# Altium footprint library RLC.PcbLib: 144 footprints (part 4 of 9)
Each footprint in its own frame and in the unit in brackets; x right, y up, seen from the top. Pads: shape width x height; smd on the part's side, far side on the other; paste and mask are expansions set on the pad; w line width, h text height; cw(c..) or ccw(c..) is an arc to the next point about the centre after c.
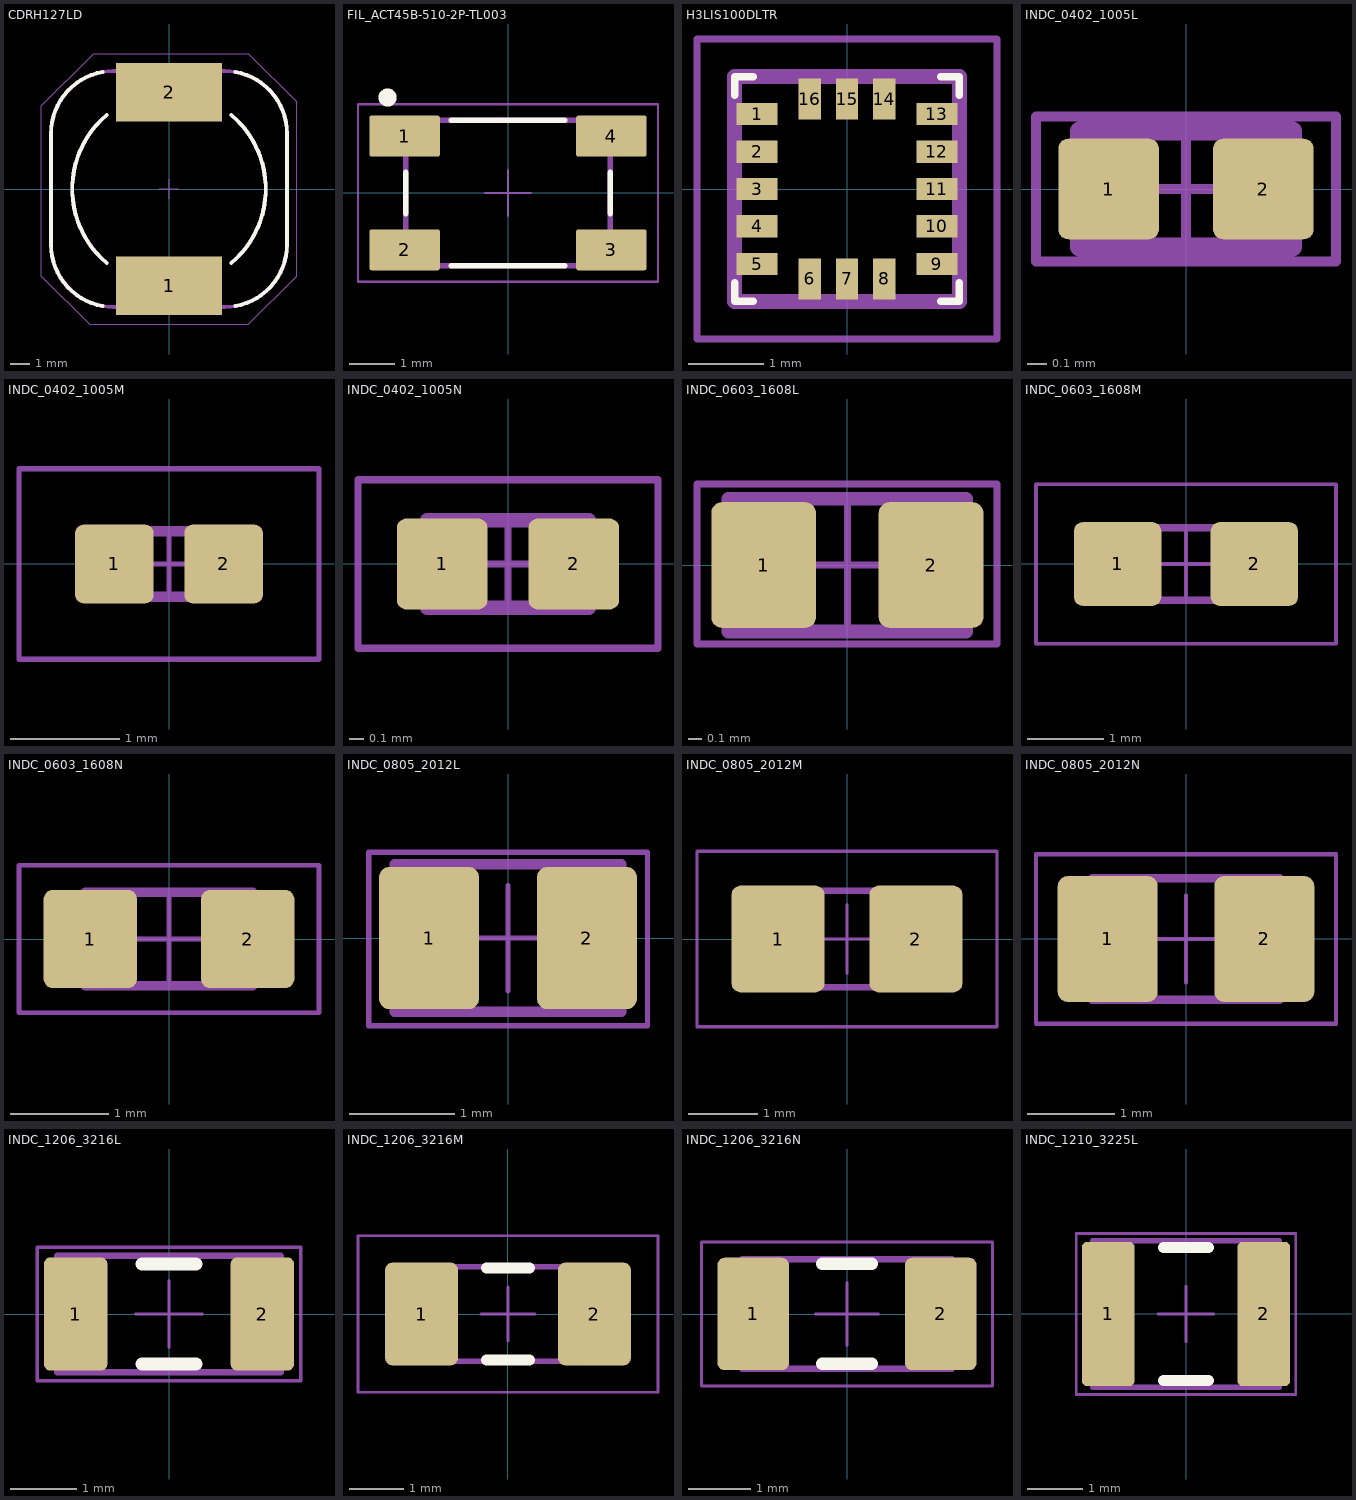
[diagram p3: the footprints below, top view; thin cyan lines are the x and y axes]

## CDRH127LD [mm] "SMD 12.3*12.3*8"
pads (2):
  rect 5.5x3 smd: 1(0,-5) 2(0,5)
Top Overlay:
  lines w0.2: -3.421,-6.051 cw(c-2.858,-2.858) -6.1,-2.858 -6.1,0 -6.1,2.858 cw(c-2.858,2.858) -3.421,6.051 ; -3.214,-3.83 cw(c0,0) -3.214,3.83 ; 3.214,-3.83 ccw(c0,0) 3.214,3.83 ; 3.421,-6.051 ccw(c2.858,-2.858) 6.1,-2.858 6.1,0 6.1,2.858 ccw(c2.858,2.858) 3.421,6.051
Top Designator:
  text ".Designator" at -2.999,7.2 h0.6
Top Assembly:
  lines w0.2: -3.214,-3.83 cw(c0,0) -3.214,3.83 ; 3.214,-3.83 ccw(c0,0) 3.214,3.83 ; -6.1,-2.858 ccw(c-2.858,-2.858) -2.858,-6.1 2.873,-6.1 ccw(c2.873,-2.873) 6.1,-2.873 6.1,2.858 ccw(c2.858,2.858) 2.858,6.1 -2.858,6.1 ccw(c-2.858,2.858) -6.1,2.858 -6.1,-2.858
Top Courtyard:
  lines w0.05: -0.5,0 0.5,0 ; 0,-0.5 0,0.5 ; -6.6,-4.5 -4.1,-7 4.1,-7 6.6,-4.5 6.6,4.5 4.1,7 -3.9,7 -6.6,4.3 -6.6,-4.5
3D body "CDRH127_LDNP-330MC.STEP": height 8, standoff 0, extent -6,-6.1 6,5.9

## FIL_ACT45B-510-2P-TL003 [mm]
height 3
pads (4):
  rrect10% 1.55x0.9 smd: 1(-2.275,1.25) 2(-2.275,-1.25) 3(2.275,-1.25) 4(2.275,1.25)
Top Overlay:
  circle w0.2: c-2.65,2.1 r0.1
  lines w0.127: -2.25,-0.45 -2.25,0.45 ; -1.25,-1.6 1.25,-1.6 ; -1.25,1.6 1.25,1.6 ; 2.25,-0.45 2.25,0.45
Top Designator:
  text ".Designator" at -2.099,2.25 h0.6
Top Assembly:
  lines w0.127: -2.25,-1.6 2.25,-1.6 2.25,1.6 -1.6,1.6 -2.25,0.95 -2.25,-1.6
Top Courtyard:
  lines w0.05: -0.5,0 0.5,0 ; 0,-0.5 0,0.5 ; -3.3,-1.95 3.3,-1.95 3.3,1.95 -3.3,1.95 -3.3,-1.95
3D body "step_temp.STEP": height 3, standoff 0, extent -2.25,-1.6 2.25,1.6

## H3LIS100DLTR [mm]
pads (16):
  rect 0.55x0.3 smd: 1(-1.2,1) 2(-1.2,0.5) 3(-1.2,0) 4(-1.2,-0.5) 5(-1.2,-1) 9(1.2,-1) 10(1.2,-0.5) 11(1.2,0) 12(1.2,0.5) 13(1.2,1)
  rect 0.3x0.55 smd: 6(-0.5,-1.2) 7(0,-1.2) 8(0.5,-1.2) 14(0.5,1.2) 15(0,1.2) 16(-0.5,1.2)
Top Overlay:
  lines w0.1: -1.5,-1.25 -1.5,-1.5 -1.25,-1.5 ; -1.5,1.25 -1.5,1.5 -1.25,1.5 ; 1.25,-1.5 1.5,-1.5 1.5,-1.25 ; 1.25,1.5 1.5,1.5 1.5,1.25
Top Assembly:
  lines w0.2: -1.5,-1.5 -1.5,1.5 1.5,1.5 1.5,-1.5 -1.5,-1.5
Top Courtyard:
  lines w0.1: -2,-2 -2,2 2,2 2,-2 -2,-2
3D body "LIS3DH.stp": height 1, standoff 0, extent -1.5,-1.5 1.5,1.5

## INDC_0402_1005L [mm] "Chip Inductor, Body 1.1x0.5mm, IPC High Density"
height 0.4
pads (2):
  rrect20% 0.52x0.52 smd: 1(-0.4,0) 2(0.4,0)
Top Designator:
  text ".Designator" at -2.799,0.7 h0.6
Top Assembly:
  lines w0.1: -0.55,-0.3 0.55,-0.3 0.55,0.3 -0.55,0.3 -0.55,-0.3
Top Courtyard:
  lines w0.05: -0.3,0 0.3,0 ; 0,-0.3 0,0.3 ; -0.775,-0.375 0.775,-0.375 0.775,0.375 -0.775,0.375 -0.775,-0.375

## INDC_0402_1005M [mm] "Chip Inductor, Body 1.1x0.5mm, IPC Low Density"
height 0.4
pads (2):
  rrect20% 0.72x0.72 smd: 1(-0.5,0) 2(0.5,0)
Top Designator:
  text ".Designator" at -2.799,1.2 h0.6
Top Assembly:
  lines w0.1: -0.55,-0.3 0.55,-0.3 0.55,0.3 -0.55,0.3 -0.55,-0.3
Top Courtyard:
  lines w0.05: -0.3,0 0.3,0 ; 0,-0.3 0,0.3 ; -1.375,-0.875 1.375,-0.875 1.375,0.875 -1.375,0.875 -1.375,-0.875

## INDC_0402_1005N [mm] "Chip Inductor, Body 1.1x0.5mm, IPC Medium Density"
height 0.4
pads (2):
  rrect20% 0.62x0.62 smd: 1(-0.45,0) 2(0.45,0)
Top Designator:
  text ".Designator" at -2.799,0.9 h0.6
Top Assembly:
  lines w0.1: -0.55,-0.3 0.55,-0.3 0.55,0.3 -0.55,0.3 -0.55,-0.3
Top Courtyard:
  lines w0.05: -0.3,0 0.3,0 ; 0,-0.3 0,0.3 ; -1.025,-0.575 1.025,-0.575 1.025,0.575 -1.025,0.575 -1.025,-0.575

## INDC_0603_1608L [mm] "Chip Inductor, Body 1.6x0.8mm, IPC High Density"
height 0.6
pads (2):
  rrect20% 0.75x0.9 smd: 1(-0.6,0) 2(0.6,0)
Top Designator:
  text ".Designator" at -2.899,0.9 h0.6
Top Assembly:
  lines w0.1: -0.85,-0.475 0.85,-0.475 0.85,0.475 -0.85,0.475 -0.85,-0.475
Top Courtyard:
  lines w0.05: -0.475,0 0.475,0 ; 0,-0.475 0,0.475 ; -1.077,-0.568 1.073,-0.568 1.073,0.582 -1.077,0.582 -1.077,-0.568
3D body "BLM18AG102SN1D.STEP": height 0.8, standoff 0, extent -0.801,-0.477 0.799,0.473

## INDC_0603_1608M [mm] "Chip Inductor, Body 1.6x0.8mm, IPC Low Density"
height 0.6
pads (2):
  rrect20% 1.15x1.1 smd: 1(-0.9,0) 2(0.9,0)
Top Designator:
  text ".Designator" at -2.899,0.9 h0.6
Top Assembly:
  lines w0.1: -0.85,-0.475 0.85,-0.475 0.85,0.475 -0.85,0.475 -0.85,-0.475
Top Courtyard:
  lines w0.05: -0.475,0 0.475,0 ; 0,-0.475 0,0.475 ; -1.975,-1.05 1.975,-1.05 1.975,1.05 -1.975,1.05 -1.975,-1.05
3D body "BLM18AG102SN1D.STEP": height 0.8, standoff 0, extent -0.801,-0.477 0.799,0.473

## INDC_0603_1608N [mm] "Chip Inductor, Body 1.6x0.8mm, IPC Medium Density"
height 0.6
pads (2):
  rrect20% 0.95x1 smd: 1(-0.8,0) 2(0.8,0)
Top Designator:
  text ".Designator" at -2.899,0.9 h0.6
Top Assembly:
  lines w0.1: -0.85,-0.475 0.85,-0.475 0.85,0.475 -0.85,0.475 -0.85,-0.475
Top Courtyard:
  lines w0.05: -0.475,0 0.475,0 ; 0,-0.475 0,0.475 ; -1.525,-0.75 1.525,-0.75 1.525,0.75 -1.525,0.75 -1.525,-0.75
3D body "BLM18AG102SN1D.STEP": height 0.8, standoff 0, extent -0.801,-0.477 0.799,0.473

## INDC_0805_2012L [mm] "Chip Inductor, Body 2.0x1.3mm, IPC High Density"
height 0.65
pads (2):
  rrect20% 0.95x1.35 smd: 1(-0.75,0) 2(0.75,0)
Top Designator:
  text ".Designator" at -2.899,1.1 h0.6
Top Assembly:
  lines w0.1: -1.075,-0.7 1.075,-0.7 1.075,0.7 -1.075,0.7 -1.075,-0.7
Top Courtyard:
  lines w0.05: -0.5,0 0.5,0 ; 0,-0.5 0,0.5 ; -1.324,-0.834 1.326,-0.834 1.326,0.816 -1.324,0.816 -1.324,-0.834

## INDC_0805_2012M [mm] "Chip Inductor, Body 2.0x1.3mm, IPC Low Density"
height 0.65
pads (2):
  rrect20% 1.35x1.55 smd: 1(-1,0) 2(1,0)
Top Designator:
  text ".Designator" at -2.899,1.1 h0.6
Top Assembly:
  lines w0.1: -1.075,-0.7 1.075,-0.7 1.075,0.7 -1.075,0.7 -1.075,-0.7
Top Courtyard:
  lines w0.05: -0.5,0 0.5,0 ; 0,-0.5 0,0.5 ; -2.175,-1.275 2.175,-1.275 2.175,1.275 -2.175,1.275 -2.175,-1.275

## INDC_0805_2012N [mm] "Chip Inductor, Body 2.0x1.3mm, IPC Medium Density"
height 0.65
pads (2):
  rrect20% 1.15x1.45 smd: 1(-0.9,0) 2(0.9,0)
Top Designator:
  text ".Designator" at -2.899,1.1 h0.6
Top Assembly:
  lines w0.1: -1.075,-0.7 -1.075,0.7 1.075,0.7 1.075,-0.7 -1.075,-0.7
Top Courtyard:
  lines w0.05: -0.5,0 0.5,0 ; 0,-0.5 0,0.5 ; -1.725,-0.975 -1.725,0.975 1.725,0.975 1.725,-0.975 -1.725,-0.975

## INDC_1206_3216L [mm] "Chip Inductor, Body 3.2x1.6mm, IPC High Density"
height 0.71
pads (2):
  rrect20% 0.95x1.7 smd: 1(-1.4,0) 2(1.4,0)
Top Overlay:
  lines w0.2: -0.4,-0.75 0.4,-0.75 ; -0.4,0.75 0.4,0.75
Top Designator:
  text ".Designator" at -2.899,1.4 h0.6
Top Assembly:
  lines w0.1: -1.675,-0.875 1.675,-0.875 1.675,0.875 -1.675,0.875 -1.675,-0.875
Top Courtyard:
  lines w0.05: -0.5,0 0.5,0 ; 0,-0.5 0,0.5 ; -1.975,-1 1.975,-1 1.975,1 -1.975,1 -1.975,-1

## INDC_1206_3216M [mm] "Chip Inductor, Body 3.2x1.6mm, IPC Low Density"
height 0.71
pads (2):
  rrect20% 1.35x1.9 smd: 1(-1.6,0) 2(1.6,0)
Top Overlay:
  lines w0.2: -0.4,-0.85 0.4,-0.85 ; -0.4,0.85 0.4,0.85
Top Designator:
  text ".Designator" at -2.899,1.5 h0.6
Top Assembly:
  lines w0.1: -1.675,-0.875 -1.675,0.875 1.675,0.875 1.675,-0.875 -1.675,-0.875
Top Courtyard:
  lines w0.05: -0.5,0 0.5,0 ; 0,-0.5 0,0.5 ; -2.775,-1.45 -2.775,1.45 2.775,1.45 2.775,-1.45 -2.775,-1.45

## INDC_1206_3216N [mm] "Chip Inductor, Body 3.2x1.6mm, IPC Medium Density"
height 0.71
pads (2):
  rrect20% 1.15x1.8 smd: 1(-1.5,0) 2(1.5,0)
Top Overlay:
  lines w0.2: -0.4,-0.8 0.4,-0.8 ; -0.4,0.8 0.4,0.8
Top Designator:
  text ".Designator" at -2.899,1.5 h0.6
Top Assembly:
  lines w0.1: -1.675,-0.875 1.675,-0.875 1.675,0.875 -1.675,0.875 -1.675,-0.875
Top Courtyard:
  lines w0.05: -0.5,0 0.5,0 ; 0,-0.5 0,0.5 ; -2.325,-1.15 2.325,-1.15 2.325,1.15 -2.325,1.15 -2.325,-1.15

## INDC_1210_3225L [mm] "Chip Inductor, Body 3.2x2.5mm, IPC High Density"
height 0.71
pads (2):
  rrect20% 0.95x2.6 smd: 1(-1.4,0) 2(1.4,0)
Top Overlay:
  lines w0.2: -0.4,-1.2 0.4,-1.2 ; -0.4,1.2 0.4,1.2
Top Designator:
  text ".Designator" at -2.999,1.8 h0.6
Top Assembly:
  lines w0.1: -1.675,-1.32 -1.675,1.32 1.675,1.32 1.675,-1.32 -1.675,-1.32
Top Courtyard:
  lines w0.05: -0.5,0 0.5,0 ; 0,-0.5 0,0.5 ; -1.975,-1.45 -1.975,1.45 1.975,1.45 1.975,-1.45 -1.975,-1.45